# Altium schematic symbol library DC01460-B.SchLib: 1 symbol
Pins are listed as number, name and electrical type; pins without a type are passive.

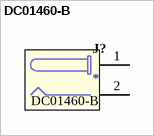
[diagram p0: symbol DC01460-B]

## DC01460-B
designator J?
pins: 1 (power), 2 (power)